# EAGLE library part TPS56339DDCR (library TPS56339DDCR)
4.5-V to 24-V input, 3-A output synchronous buck converter Source: Datasheet <http://www.ti.com/lit/gpn/TPS56339>
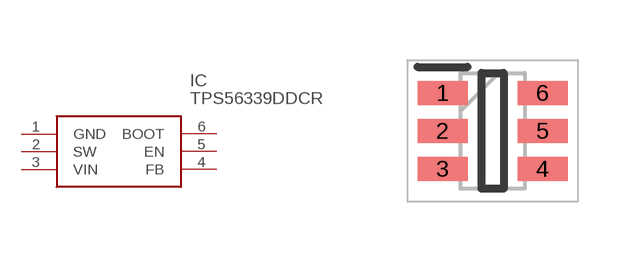
[diagram p0: symbol with the pads of SOT95P280X110-6N; footprint SOT95P280X110-6N]

Designator prefix IC

## TPS56339DDCR (Description: 4.5-V to 24-V input, 3-A output synchronous buck converter; Height: 1.1mm; Manufacturer_Name: Texas Instruments; Manufacturer_Part_Number: TPS56339DDCR; Mouser_Part_Number: 595-TPS56339DDCR; Mouser_Price-Stock: https://www.mouser.co.uk/ProductDetail/Texas-Instruments/TPS56339DDCR?qs=T3oQrply3y%2FnX4YgbxZYZA%3D%3D)  [SOT95P280X110-6N]
1  GND
2  SW
3  VIN
4  FB
5  EN
6  BOOT

## Footprint SOT95P280X110-6N (pad centres in mm)
6-Pin Thin SOT23
smd 1.25 x 0.6: 1 -1.25,0.95; 2 -1.25,0; 3 -1.25,-0.95; 4 1.25,-0.95; 5 1.25,0; 6 1.25,0.95